# Altium schematic symbol library MCP1702-SOT23.SchLib: 1 symbol
Pins are listed as number, name and electrical type; pins without a type are passive.

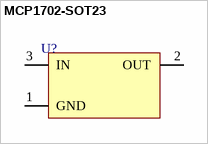
[diagram p0: symbol MCP1702-SOT23]

## MCP1702-SOT23
designator U?  (value not drawn)
pins: 1 GND, 2 OUT, 3 IN